# Altium integrated library TI Data Converters Analog to Digital Converter.IntLib: 2197 symbols (part 11 of 168)
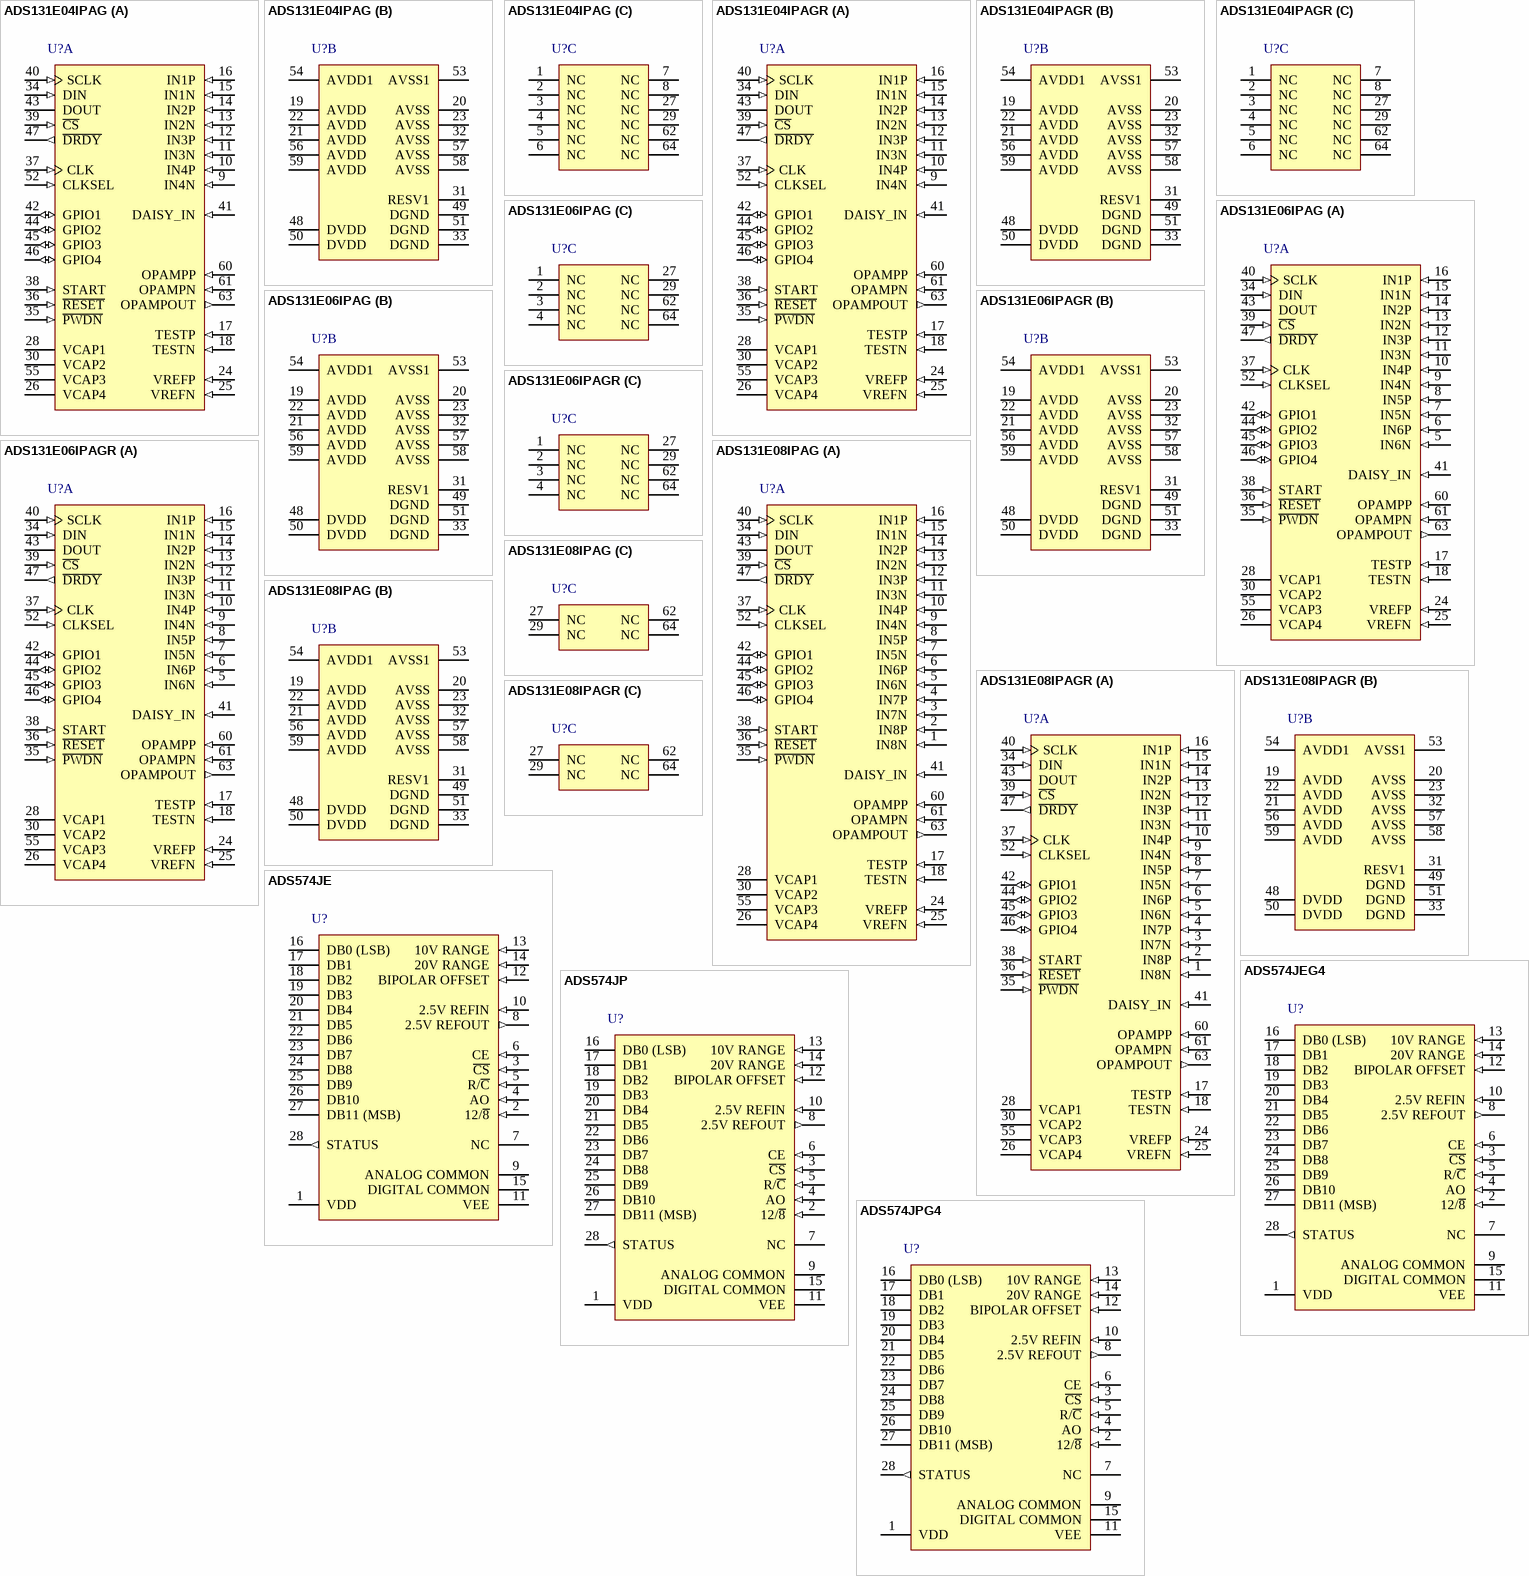
[diagram p136: symbols ADS131E04IPAG to ADS574JPG4]

## ADS131E08IPAGR
designator U?
Analog Front-End for Power Monitoring, Control and Protection, -40 to 105 degC, 64-pin QFP (PAG64), Green (RoHS & no Sb/Br); Manufacturer: Texas Instruments; PartNumber: ADS131E08IPAGR; # Input Channels: 8; Analog Voltage AV/DD(Max)(V): 5.25; Analog Voltage AV/DD(Min)(V): 2.7; Architecture: Delta-Sigma; Digital Supply(Max)(V): 3.6; Digital Supply(Min)(V): 1.8; Interface: Serial SPI; Resolution(Bits): 16; Sample Rate(max)(SPS): 64k; SNR(dB): 107; SubFamily: Precision ADC (<=10MSPS); DatasheetVersion: SBAS561A; PackageVersion: 4040282/C, 11/1996; PackageReference: PAG64; PackageDescription: 64-Pin Plastic Flat Pack, Body 10 x 10 mm, Pitch 0.50 mm; Supplier 1: Digi-Key; Supplier Part Number 1: 296-14468-2-ND; Supplier 2: Digi-Key; Supplier Part Number 2: 296-14468-1-ND; Supplier 3: Digi-Key; Supplier Part Number 3: 296-14468-6-ND; Supplier 4: Mouser; Supplier Part Number 4: 595-ADS1110A7IDBVT; Eco-Plan: Green (RoHS & no Sb/Br); Mounting Technology: Surface Mount; Code_JEDEC: MS-026; ComponentLink1Description: Manufacturer URL; ComponentLink1URL: http://www.ti.com/; ComponentLink2Description: Datasheet; ComponentLink2URL: http://www.ti.com/lit/ds/symlink/ads131e08.pdf; ComponentLink3Description: Package Specification; ComponentLink3URL: http://www.ti.com/lit/ml/mtqf006a/mtqf006a.pdf
footprint TI-PAG64_N (QFP, 64-Leads, Body 10x10mm, Pitch 0.5mm, IPC Medium Density)
footprint TI-PAG64_L (QFP, 64-Leads, Body 10x10mm, Pitch 0.5mm, IPC High Density)
footprint TI-PAG64_M (QFP, 64-Leads, Body 10x10mm, Pitch 0.5mm, IPC Low Density)
part A pins: 1 IN8N (in) "Differential analog negative input 8", 2 IN8P (in) "Differential analog positive input 8", 3 IN7N (in) "Differential analog negative input 7", 4 IN7P (in) "Differential analog positive input 7", 5 IN6N (in) "Differential analog negative input 6", 6 IN6P (in) "Differential analog positive input 6", 7 IN5N (in) "Differential analog negative input 5", 8 IN5P (in) "Differential analog positive input 5", 9 IN4N (in) "Differential analog negative input 4", 10 IN4P (in) "Differential analog positive input 4", 11 IN3N (in) "Differential analog negative input 3", 12 IN3P (in) "Differential analog positive input 3", 13 IN2N (in) "Differential analog negative input 2", 14 IN2P (in) "Differential analog positive input 2", 15 IN1N (in) "Differential analog negative input 1", 16 IN1P (in) "Differential analog positive input 1", 17 TESTP (in) "Internal test signal, positive signal", 18 TESTN (in) "Internal test signal, negative signal", 24 VREFP (in) "Positive reference voltage", 25 VREFN (in) "Negative reference voltage", 26 VCAP4 "Analog bypass capacitor", 28 VCAP1 "Analog bypass capacitor", 30 VCAP2 "Analog bypass capacitor", 34 DIN (in) "SPI data in", 35 ~{PWDN} (in) "Power-down; active low", 36 ~{RESET} (in) "System reset; active low", 37 CLK (in) "Master clock input", 38 START (in) "Start conversion", 39 ~{CS} (in) "SPI chip select; active low", 40 SCLK (in) "SPI clock", 41 DAISY_IN (in) "Daisy-chain input", 42 GPIO1 (io) "General-purpose input/output pin", 43 DOUT (hiz) "SPI data out", 44 GPIO2 (io) "General-purpose input/output pin", 45 GPIO3 (io) "General-purpose input/output pin", 46 GPIO4 (io) "General-purpose input/output pin", 47 ~{DRDY} (out) "Data ready; active low", 52 CLKSEL (in) "Master clock select", 55 VCAP3 "Analog bypass capacitor", 60 OPAMPP (in) "Op amp noninverting input", 61 OPAMPN (in) "Op amp inverting input", 63 OPAMPOUT (out) "Op amp output"
part B pins: 19 AVDD (power) "Analog supply", 20 AVSS (power) "Analog ground", 21 AVDD (power) "Analog supply", 22 AVDD (power) "Analog supply", 23 AVSS (power) "Analog ground", 31 RESV1 (power) "Reserved for future use; must tie to logic low (DGND)", 32 AVSS (power) "Analog ground", 33 DGND (power) "Digital ground", 48 DVDD (power) "Digital power supply", 49 DGND (power) "Digital ground", 50 DVDD (power) "Digital power supply", 51 DGND (power) "Digital ground", 53 AVSS1 (power) "Charge pump analog ground", 54 AVDD1 (power) "Charge pump analog supply", 56 AVDD (power) "Analog supply", 57 AVSS (power) "Analog ground", 58 AVSS (power) "Analog ground", 59 AVDD (power) "Analog supply"
part C pins: 27 NC "No connection, leave floating", 29 NC "No connection, leave floating", 62 NC "No connection, leave floating", 64 NC "No connection, leave floating"

## ADS574JE
designator U?
Microprocessor-Compatible Sampling CMOS ADC, -40 to 85 degC, 28-pin DIP (NT28), Green (RoHS & no Sb/Br); Manufacturer: Texas Instruments; PartNumber: ADS574JE; # Input Channels: 1; Analog Voltage AV/DD(Max)(V): 5.5; Analog Voltage AV/DD(Min)(V): 4.5; Architecture: SAR; Interface: Parallel CMOS; Resolution(Bits): 12; SFDR(dB): 78; SINAD(dB): 71; SNR(dB): 72; SubFamily: Precision ADC (<=10MSPS); DatasheetVersion: SBAS009; PackageVersion: 4040050/C, 04/2009; PackageReference: NT28; PackageDescription: 28-Pin Plastic Dual-In-Line Package, Body 35.69 x 6.73 mm, Pitch 2.54 mm; Supplier 1: Digi-Key; Supplier Part Number 1: ADS1110A7IDBVTG4-ND; Supplier 2: Mouser; Supplier Part Number 2: 595-ADS1110A7IDBVTG4; Digital Supply(Max)(V): 5.5; Digital Supply(Min)(V): 4.5; Eco-Plan: Green (RoHS & no Sb/Br); INL(Max)(+/-LSB): 1; Mounting Technology: Through Hole; ComponentLink1Description: Manufacturer URL; ComponentLink1URL: http://www.ti.com/; ComponentLink2Description: Datasheet; ComponentLink2URL: http://www.ti.com/general/docs/lit/getliterature.tsp?genericPartNumber=ADS574&fileType=pdf; ComponentLink3Description: Package Specification; ComponentLink3URL: http://www.ti.com/lit/ml/mpdi004a/mpdi004a.pdf
footprint TI-NT28 (DIP, 28-Leads, Body 35.69x6.73mm, Pitch 2.54mm)
pins: 1 VDD (power), 2 12/~{8} (in), 3 ~{CS} (in), 4 AO (in), 5 R/~{C} (in), 6 CE (in), 7 NC, 8 2.5V REFOUT (out), 9 ANALOG COMMON (power), 10 2.5V REFIN (in), 11 VEE (power), 12 BIPOLAR OFFSET (in), 13 10V RANGE (in), 14 20V RANGE (in), 15 DIGITAL COMMON (power), 16 DB0 (LSB) (hiz), 17 DB1 (hiz), 18 DB2 (hiz), 19 DB3 (hiz), 20 DB4 (hiz), 21 DB5 (hiz), 22 DB6 (hiz), 23 DB7 (hiz), 24 DB8 (hiz), 25 DB9 (hiz), 26 DB10 (hiz), 27 DB11 (MSB) (hiz), 28 STATUS (out)

## ADS574JEG4
designator U?
Microprocessor-Compatible Sampling CMOS ADC, -40 to 85 degC, 28-pin DIP (NT28), Green (RoHS & no Sb/Br); Manufacturer: Texas Instruments; PartNumber: ADS574JEG4; # Input Channels: 1; Analog Voltage AV/DD(Max)(V): 5.5; Analog Voltage AV/DD(Min)(V): 4.5; Architecture: SAR; Interface: Parallel CMOS; Resolution(Bits): 12; SFDR(dB): 78; SINAD(dB): 71; SNR(dB): 72; SubFamily: Precision ADC (<=10MSPS); DatasheetVersion: SBAS009; PackageVersion: 4040050/C, 04/2009; PackageReference: NT28; PackageDescription: 28-Pin Plastic Dual-In-Line Package, Body 35.69 x 6.73 mm, Pitch 2.54 mm; Supplier 1: Digi-Key; Supplier Part Number 1: ADS1100A0IDBVR-ND; Supplier 2: Newark; Supplier Part Number 2: 20H0707; Supplier 3: Mouser; Supplier Part Number 3: 595-ADS1100A0IDBVR; Digital Supply(Max)(V): 5.5; Digital Supply(Min)(V): 4.5; Eco-Plan: Green (RoHS & no Sb/Br); INL(Max)(+/-LSB): 1; Mounting Technology: Through Hole; ComponentLink1Description: Manufacturer URL; ComponentLink1URL: http://www.ti.com/; ComponentLink2Description: Datasheet; ComponentLink2URL: http://www.ti.com/general/docs/lit/getliterature.tsp?genericPartNumber=ADS574&fileType=pdf; ComponentLink3Description: Package Specification; ComponentLink3URL: http://www.ti.com/lit/ml/mpdi004a/mpdi004a.pdf
footprint TI-NT28 (DIP, 28-Leads, Body 35.69x6.73mm, Pitch 2.54mm)
pins: 1 VDD (power), 2 12/~{8} (in), 3 ~{CS} (in), 4 AO (in), 5 R/~{C} (in), 6 CE (in), 7 NC, 8 2.5V REFOUT (out), 9 ANALOG COMMON (power), 10 2.5V REFIN (in), 11 VEE (power), 12 BIPOLAR OFFSET (in), 13 10V RANGE (in), 14 20V RANGE (in), 15 DIGITAL COMMON (power), 16 DB0 (LSB) (hiz), 17 DB1 (hiz), 18 DB2 (hiz), 19 DB3 (hiz), 20 DB4 (hiz), 21 DB5 (hiz), 22 DB6 (hiz), 23 DB7 (hiz), 24 DB8 (hiz), 25 DB9 (hiz), 26 DB10 (hiz), 27 DB11 (MSB) (hiz), 28 STATUS (out)

## ADS574JP
designator U?
Microprocessor-Compatible Sampling CMOS ADC, -40 to 85 degC, 28-pin DIP (NTD28), Green (RoHS & no Sb/Br); Manufacturer: Texas Instruments; PartNumber: ADS574JP; # Input Channels: 1; Analog Voltage AV/DD(Max)(V): 5.5; Analog Voltage AV/DD(Min)(V): 4.5; Architecture: SAR; Interface: Parallel CMOS; Resolution(Bits): 12; SFDR(dB): 78; SINAD(dB): 71; SNR(dB): 72; SubFamily: Precision ADC (<=10MSPS); DatasheetVersion: SBAS009; PackageVersion: 4202496/A, 03/2001; PackageReference: NTD28; PackageDescription: 28-Pin Plastic Dual-In-Line, Body 37.4 x 13.525 mm, Pitch 2.54 mm; Supplier 1: Digi-Key; Supplier Part Number 1: ADS1100A0IDBVRG4-ND; Supplier 2: Mouser; Supplier Part Number 2: 595-ADS1100A0IDBVRG4; Digital Supply(Max)(V): 5.5; Digital Supply(Min)(V): 4.5; Eco-Plan: Green (RoHS & no Sb/Br); INL(Max)(+/-LSB): 1; Mounting Technology: Through Hole; Code_JEDEC: MS-011-AB; ComponentLink1Description: Manufacturer URL; ComponentLink1URL: http://www.ti.com/; ComponentLink2Description: Datasheet; ComponentLink2URL: http://www.ti.com/general/docs/lit/getliterature.tsp?genericPartNumber=ADS574&fileType=pdf; ComponentLink3Description: Package Specification; ComponentLink3URL: http://www.ti.com/litv/pdf/mpdi056
footprint TI-NTD28 (DIP, 28-Leads, Body 37.4x13.525mm, Pitch 2.54mm)
pins: 1 VDD (power), 2 12/~{8} (in), 3 ~{CS} (in), 4 AO (in), 5 R/~{C} (in), 6 CE (in), 7 NC, 8 2.5V REFOUT (out), 9 ANALOG COMMON (power), 10 2.5V REFIN (in), 11 VEE (power), 12 BIPOLAR OFFSET (in), 13 10V RANGE (in), 14 20V RANGE (in), 15 DIGITAL COMMON (power), 16 DB0 (LSB) (hiz), 17 DB1 (hiz), 18 DB2 (hiz), 19 DB3 (hiz), 20 DB4 (hiz), 21 DB5 (hiz), 22 DB6 (hiz), 23 DB7 (hiz), 24 DB8 (hiz), 25 DB9 (hiz), 26 DB10 (hiz), 27 DB11 (MSB) (hiz), 28 STATUS (out)

## ADS574JPG4
designator U?
Microprocessor-Compatible Sampling CMOS ADC, -40 to 85 degC, 28-pin DIP (NTD28), Green (RoHS & no Sb/Br); Manufacturer: Texas Instruments; PartNumber: ADS574JPG4; # Input Channels: 1; Analog Voltage AV/DD(Max)(V): 5.5; Analog Voltage AV/DD(Min)(V): 4.5; Architecture: SAR; Interface: Parallel CMOS; Resolution(Bits): 12; SFDR(dB): 78; SINAD(dB): 71; SNR(dB): 72; SubFamily: Precision ADC (<=10MSPS); DatasheetVersion: SBAS009; PackageVersion: 4202496/A, 03/2001; PackageReference: NTD28; PackageDescription: 28-Pin Plastic Dual-In-Line, Body 37.4 x 13.525 mm, Pitch 2.54 mm; Supplier 1: Digi-Key; Supplier Part Number 1: 296-12966-2-ND; Supplier 2: Digi-Key; Supplier Part Number 2: 296-12966-1-ND; Supplier 3: Digi-Key; Supplier Part Number 3: 296-12966-6-ND; Supplier 4: Farnell; Supplier Part Number 4: 1135959; Supplier 5: Newark; Supplier Part Number 5: 20H0708; Supplier 6: Mouser; Supplier Part Number 6: 595-ADS1100A0IDBVT; Digital Supply(Max)(V): 5.5; Digital Supply(Min)(V): 4.5; Eco-Plan: Green (RoHS & no Sb/Br); INL(Max)(+/-LSB): 1; Mounting Technology: Through Hole; Code_JEDEC: MS-011-AB; ComponentLink1Description: Manufacturer URL; ComponentLink1URL: http://www.ti.com/; ComponentLink2Description: Datasheet; ComponentLink2URL: http://www.ti.com/general/docs/lit/getliterature.tsp?genericPartNumber=ADS574&fileType=pdf; ComponentLink3Description: Package Specification; ComponentLink3URL: http://www.ti.com/litv/pdf/mpdi056
footprint TI-NTD28 (DIP, 28-Leads, Body 37.4x13.525mm, Pitch 2.54mm)
pins: 1 VDD (power), 2 12/~{8} (in), 3 ~{CS} (in), 4 AO (in), 5 R/~{C} (in), 6 CE (in), 7 NC, 8 2.5V REFOUT (out), 9 ANALOG COMMON (power), 10 2.5V REFIN (in), 11 VEE (power), 12 BIPOLAR OFFSET (in), 13 10V RANGE (in), 14 20V RANGE (in), 15 DIGITAL COMMON (power), 16 DB0 (LSB) (hiz), 17 DB1 (hiz), 18 DB2 (hiz), 19 DB3 (hiz), 20 DB4 (hiz), 21 DB5 (hiz), 22 DB6 (hiz), 23 DB7 (hiz), 24 DB8 (hiz), 25 DB9 (hiz), 26 DB10 (hiz), 27 DB11 (MSB) (hiz), 28 STATUS (out)

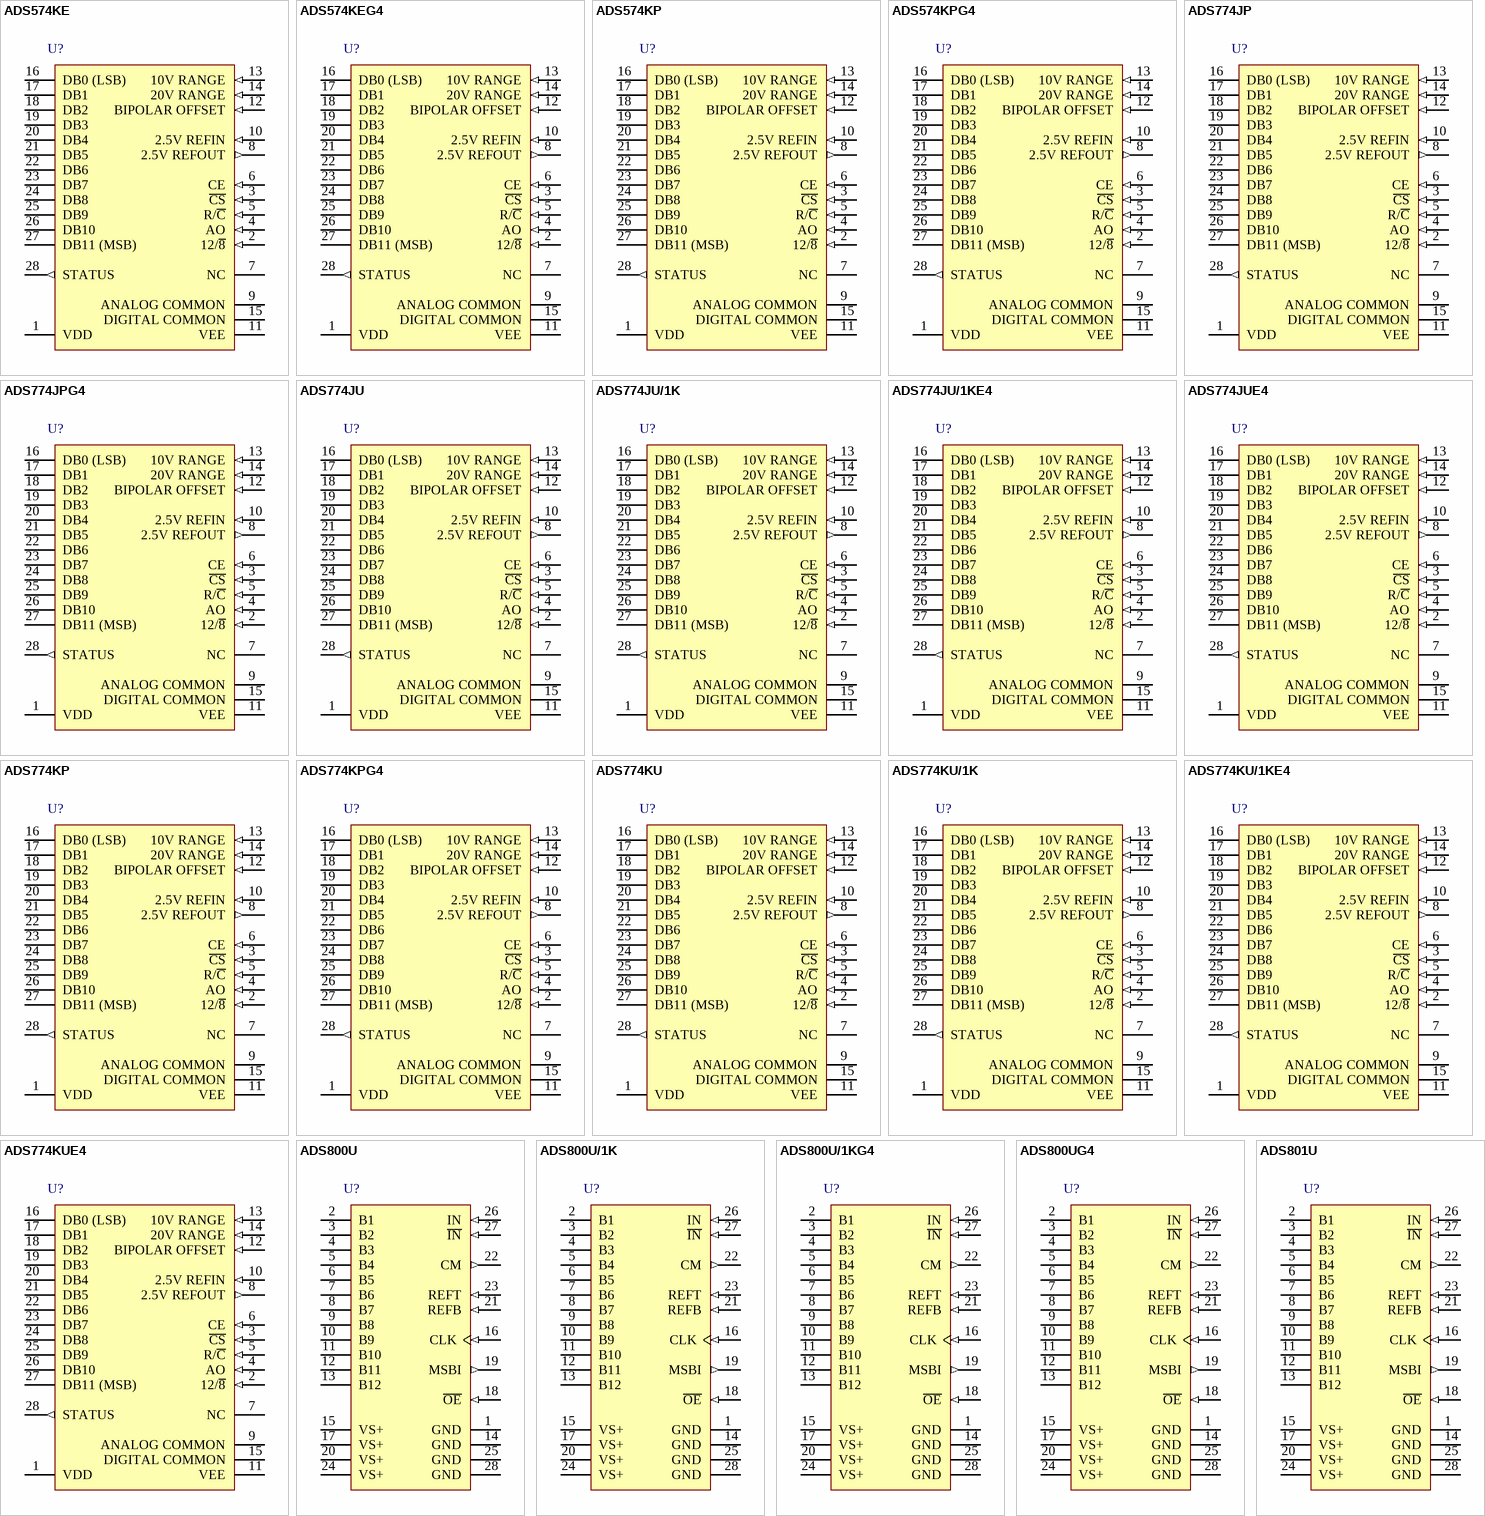
[diagram p7: symbols ADS574KE to ADS801U]

## ADS574KE
designator U?
Microprocessor-Compatible Sampling CMOS ADC, -40 to 85 degC, 28-pin DIP (NT28), Green (RoHS & no Sb/Br); Manufacturer: Texas Instruments; PartNumber: ADS574KE; # Input Channels: 1; Analog Voltage AV/DD(Max)(V): 5.5; Analog Voltage AV/DD(Min)(V): 4.5; Architecture: SAR; INL(Max)(+/-LSB): 0.5; Interface: Parallel CMOS; Resolution(Bits): 12; SFDR(dB): 78; SINAD(dB): 71; SNR(dB): 72; SubFamily: Precision ADC (<=10MSPS); DatasheetVersion: SBAS009; PackageVersion: 4040050/C, 04/2009; PackageReference: NT28; PackageDescription: 28-Pin Plastic Dual-In-Line Package, Body 35.69 x 6.73 mm, Pitch 2.54 mm; Supplier 1: Digi-Key; Supplier Part Number 1: ADS1100A0IDBVTG4-ND; Supplier 2: Newark; Supplier Part Number 2: 33K4745; Supplier 3: Mouser; Supplier Part Number 3: 595-ADS1100A0IDBVTG4; Digital Supply(Max)(V): 5.5; Digital Supply(Min)(V): 4.5; Eco-Plan: Green (RoHS & no Sb/Br); Mounting Technology: Through Hole; ComponentLink1Description: Manufacturer URL; ComponentLink1URL: http://www.ti.com/; ComponentLink2Description: Datasheet; ComponentLink2URL: http://www.ti.com/general/docs/lit/getliterature.tsp?genericPartNumber=ADS574&fileType=pdf; ComponentLink3Description: Package Specification; ComponentLink3URL: http://www.ti.com/lit/ml/mpdi004a/mpdi004a.pdf
footprint TI-NT28 (DIP, 28-Leads, Body 35.69x6.73mm, Pitch 2.54mm)
pins: 1 VDD (power), 2 12/~{8} (in), 3 ~{CS} (in), 4 AO (in), 5 R/~{C} (in), 6 CE (in), 7 NC, 8 2.5V REFOUT (out), 9 ANALOG COMMON (power), 10 2.5V REFIN (in), 11 VEE (power), 12 BIPOLAR OFFSET (in), 13 10V RANGE (in), 14 20V RANGE (in), 15 DIGITAL COMMON (power), 16 DB0 (LSB) (hiz), 17 DB1 (hiz), 18 DB2 (hiz), 19 DB3 (hiz), 20 DB4 (hiz), 21 DB5 (hiz), 22 DB6 (hiz), 23 DB7 (hiz), 24 DB8 (hiz), 25 DB9 (hiz), 26 DB10 (hiz), 27 DB11 (MSB) (hiz), 28 STATUS (out)

## ADS574KEG4
designator U?
Microprocessor-Compatible Sampling CMOS ADC, -40 to 85 degC, 28-pin DIP (NT28), Green (RoHS & no Sb/Br); Manufacturer: Texas Instruments; PartNumber: ADS574KEG4; # Input Channels: 1; Analog Voltage AV/DD(Max)(V): 5.5; Analog Voltage AV/DD(Min)(V): 4.5; Architecture: SAR; INL(Max)(+/-LSB): 0.5; Interface: Parallel CMOS; Resolution(Bits): 12; SFDR(dB): 78; SINAD(dB): 71; SNR(dB): 72; SubFamily: Precision ADC (<=10MSPS); DatasheetVersion: SBAS009; PackageVersion: 4040050/C, 04/2009; PackageReference: NT28; PackageDescription: 28-Pin Plastic Dual-In-Line Package, Body 35.69 x 6.73 mm, Pitch 2.54 mm; Supplier 1: Digi-Key; Supplier Part Number 1: ADS1100A1IDBVR-ND; Supplier 2: Mouser; Supplier Part Number 2: 595-ADS1100A1IDBVR; Digital Supply(Max)(V): 5.5; Digital Supply(Min)(V): 4.5; Eco-Plan: Green (RoHS & no Sb/Br); Mounting Technology: Through Hole; ComponentLink1Description: Manufacturer URL; ComponentLink1URL: http://www.ti.com/; ComponentLink2Description: Datasheet; ComponentLink2URL: http://www.ti.com/general/docs/lit/getliterature.tsp?genericPartNumber=ADS574&fileType=pdf; ComponentLink3Description: Package Specification; ComponentLink3URL: http://www.ti.com/lit/ml/mpdi004a/mpdi004a.pdf
footprint TI-NT28 (DIP, 28-Leads, Body 35.69x6.73mm, Pitch 2.54mm)
pins: 1 VDD (power), 2 12/~{8} (in), 3 ~{CS} (in), 4 AO (in), 5 R/~{C} (in), 6 CE (in), 7 NC, 8 2.5V REFOUT (out), 9 ANALOG COMMON (power), 10 2.5V REFIN (in), 11 VEE (power), 12 BIPOLAR OFFSET (in), 13 10V RANGE (in), 14 20V RANGE (in), 15 DIGITAL COMMON (power), 16 DB0 (LSB) (hiz), 17 DB1 (hiz), 18 DB2 (hiz), 19 DB3 (hiz), 20 DB4 (hiz), 21 DB5 (hiz), 22 DB6 (hiz), 23 DB7 (hiz), 24 DB8 (hiz), 25 DB9 (hiz), 26 DB10 (hiz), 27 DB11 (MSB) (hiz), 28 STATUS (out)

## ADS574KP
designator U?
Microprocessor-Compatible Sampling CMOS ADC, -40 to 85 degC, 28-pin DIP (NTD28), Green (RoHS & no Sb/Br); Manufacturer: Texas Instruments; PartNumber: ADS574KP; # Input Channels: 1; Analog Voltage AV/DD(Max)(V): 5.5; Analog Voltage AV/DD(Min)(V): 4.5; Architecture: SAR; INL(Max)(+/-LSB): 0.5; Interface: Parallel CMOS; Resolution(Bits): 12; SFDR(dB): 78; SINAD(dB): 71; SNR(dB): 72; SubFamily: Precision ADC (<=10MSPS); DatasheetVersion: SBAS009; PackageVersion: 4202496/A, 03/2001; PackageReference: NTD28; PackageDescription: 28-Pin Plastic Dual-In-Line, Body 37.4 x 13.525 mm, Pitch 2.54 mm; Supplier 1: Digi-Key; Supplier Part Number 1: ADS1100A1IDBVRG4-ND; Supplier 2: Mouser; Supplier Part Number 2: 595-ADS1100A1IDBVRG4; Digital Supply(Max)(V): 5.5; Digital Supply(Min)(V): 4.5; Eco-Plan: Green (RoHS & no Sb/Br); Mounting Technology: Through Hole; Code_JEDEC: MS-011-AB; ComponentLink1Description: Manufacturer URL; ComponentLink1URL: http://www.ti.com/; ComponentLink2Description: Datasheet; ComponentLink2URL: http://www.ti.com/general/docs/lit/getliterature.tsp?genericPartNumber=ADS574&fileType=pdf; ComponentLink3Description: Package Specification; ComponentLink3URL: http://www.ti.com/litv/pdf/mpdi056
footprint TI-NTD28 (DIP, 28-Leads, Body 37.4x13.525mm, Pitch 2.54mm)
pins: 1 VDD (power), 2 12/~{8} (in), 3 ~{CS} (in), 4 AO (in), 5 R/~{C} (in), 6 CE (in), 7 NC, 8 2.5V REFOUT (out), 9 ANALOG COMMON (power), 10 2.5V REFIN (in), 11 VEE (power), 12 BIPOLAR OFFSET (in), 13 10V RANGE (in), 14 20V RANGE (in), 15 DIGITAL COMMON (power), 16 DB0 (LSB) (hiz), 17 DB1 (hiz), 18 DB2 (hiz), 19 DB3 (hiz), 20 DB4 (hiz), 21 DB5 (hiz), 22 DB6 (hiz), 23 DB7 (hiz), 24 DB8 (hiz), 25 DB9 (hiz), 26 DB10 (hiz), 27 DB11 (MSB) (hiz), 28 STATUS (out)

## ADS574KPG4
designator U?
Microprocessor-Compatible Sampling CMOS ADC, -40 to 85 degC, 28-pin DIP (NTD28), Green (RoHS & no Sb/Br); Manufacturer: Texas Instruments; PartNumber: ADS574KPG4; # Input Channels: 1; Analog Voltage AV/DD(Max)(V): 5.5; Analog Voltage AV/DD(Min)(V): 4.5; Architecture: SAR; INL(Max)(+/-LSB): 0.5; Interface: Parallel CMOS; Resolution(Bits): 12; SFDR(dB): 78; SINAD(dB): 71; SNR(dB): 72; SubFamily: Precision ADC (<=10MSPS); DatasheetVersion: SBAS009; PackageVersion: 4202496/A, 03/2001; PackageReference: NTD28; PackageDescription: 28-Pin Plastic Dual-In-Line, Body 37.4 x 13.525 mm, Pitch 2.54 mm; Supplier 1: Digi-Key; Supplier Part Number 1: 296-14298-2-ND; Supplier 2: Digi-Key; Supplier Part Number 2: 296-14298-1-ND; Supplier 3: Digi-Key; Supplier Part Number 3: 296-14298-6-ND; Supplier 4: Newark; Supplier Part Number 4: 20H0710; Supplier 5: Mouser; Supplier Part Number 5: 595-ADS1100A1IDBVT; Digital Supply(Max)(V): 5.5; Digital Supply(Min)(V): 4.5; Eco-Plan: Green (RoHS & no Sb/Br); Mounting Technology: Through Hole; Code_JEDEC: MS-011-AB; ComponentLink1Description: Manufacturer URL; ComponentLink1URL: http://www.ti.com/; ComponentLink2Description: Datasheet; ComponentLink2URL: http://www.ti.com/general/docs/lit/getliterature.tsp?genericPartNumber=ADS574&fileType=pdf; ComponentLink3Description: Package Specification; ComponentLink3URL: http://www.ti.com/litv/pdf/mpdi056
footprint TI-NTD28 (DIP, 28-Leads, Body 37.4x13.525mm, Pitch 2.54mm)
pins: 1 VDD (power), 2 12/~{8} (in), 3 ~{CS} (in), 4 AO (in), 5 R/~{C} (in), 6 CE (in), 7 NC, 8 2.5V REFOUT (out), 9 ANALOG COMMON (power), 10 2.5V REFIN (in), 11 VEE (power), 12 BIPOLAR OFFSET (in), 13 10V RANGE (in), 14 20V RANGE (in), 15 DIGITAL COMMON (power), 16 DB0 (LSB) (hiz), 17 DB1 (hiz), 18 DB2 (hiz), 19 DB3 (hiz), 20 DB4 (hiz), 21 DB5 (hiz), 22 DB6 (hiz), 23 DB7 (hiz), 24 DB8 (hiz), 25 DB9 (hiz), 26 DB10 (hiz), 27 DB11 (MSB) (hiz), 28 STATUS (out)

## ADS774JP
designator U?
Microprocessor-Compatible Sampling CMOS ADC, -40 to 85 degC, 28-pin DIP (NTD28), Green (RoHS & no Sb/Br); Manufacturer: Texas Instruments; PartNumber: ADS774JP; # Input Channels: 1; Analog Voltage AV/DD(Max)(V): 5.5; Analog Voltage AV/DD(Min)(V): 4.5; Architecture: SAR; Digital Supply(Max)(V): 5.4; Interface: Parallel CMOS; Resolution(Bits): 12; Sample Rate (max)(SPS): 125k; SFDR(dB): 78; SINAD(dB): 71; SNR(dB): 72; SubFamily: Precision ADC (<=10MSPS); DatasheetVersion: SBAS010; PackageVersion: 4202496/A, 03/2001; PackageReference: NTD28; PackageDescription: 28-Pin Plastic Dual-In-Line, Body 37.4 x 13.525 mm, Pitch 2.54 mm; Supplier 1: Digi-Key; Supplier Part Number 1: ADS1100A1IDBVTG4-ND; Supplier 2: Mouser; Supplier Part Number 2: 595-ADS1100A1IDBVTG4; Digital Supply(Min)(V): 4.5; Eco-Plan: Green (RoHS & no Sb/Br); INL(Max)(+/-LSB): 1; Mounting Technology: Through Hole; Code_JEDEC: MS-011-AB; ComponentLink1Description: Manufacturer URL; ComponentLink1URL: http://www.ti.com/; ComponentLink2Description: Datasheet; ComponentLink2URL: http://www.ti.com/general/docs/lit/getliterature.tsp?genericPartNumber=ADS774&fileType=pdf; ComponentLink3Description: Package Specification; ComponentLink3URL: http://www.ti.com/litv/pdf/mpdi056
footprint TI-NTD28 (DIP, 28-Leads, Body 37.4x13.525mm, Pitch 2.54mm)
pins: 1 VDD (power), 2 12/~{8} (in), 3 ~{CS} (in), 4 AO (in), 5 R/~{C} (in), 6 CE (in), 7 NC, 8 2.5V REFOUT (out), 9 ANALOG COMMON (power), 10 2.5V REFIN (in), 11 VEE (power), 12 BIPOLAR OFFSET (in), 13 10V RANGE (in), 14 20V RANGE (in), 15 DIGITAL COMMON (power), 16 DB0 (LSB) (hiz), 17 DB1 (hiz), 18 DB2 (hiz), 19 DB3 (hiz), 20 DB4 (hiz), 21 DB5 (hiz), 22 DB6 (hiz), 23 DB7 (hiz), 24 DB8 (hiz), 25 DB9 (hiz), 26 DB10 (hiz), 27 DB11 (MSB) (hiz), 28 STATUS (out)

## ADS774JPG4
designator U?
Microprocessor-Compatible Sampling CMOS ADC, -40 to 85 degC, 28-pin DIP (NTD28), Green (RoHS & no Sb/Br); Manufacturer: Texas Instruments; PartNumber: ADS774JPG4; # Input Channels: 1; Analog Voltage AV/DD(Max)(V): 5.5; Analog Voltage AV/DD(Min)(V): 4.5; Architecture: SAR; Digital Supply(Max)(V): 5.4; Interface: Parallel CMOS; Resolution(Bits): 12; Sample Rate (max)(SPS): 125k; SFDR(dB): 78; SINAD(dB): 71; SNR(dB): 72; SubFamily: Precision ADC (<=10MSPS); DatasheetVersion: SBAS010; PackageVersion: 4202496/A, 03/2001; PackageReference: NTD28; PackageDescription: 28-Pin Plastic Dual-In-Line, Body 37.4 x 13.525 mm, Pitch 2.54 mm; Supplier 1: Digi-Key; Supplier Part Number 1: ADS1100A2IDBVR-ND; Supplier 2: Mouser; Supplier Part Number 2: 595-ADS1100A2IDBVR; Digital Supply(Min)(V): 4.5; Eco-Plan: Green (RoHS & no Sb/Br); INL(Max)(+/-LSB): 1; Mounting Technology: Through Hole; Code_JEDEC: MS-011-AB; ComponentLink1Description: Manufacturer URL; ComponentLink1URL: http://www.ti.com/; ComponentLink2Description: Datasheet; ComponentLink2URL: http://www.ti.com/general/docs/lit/getliterature.tsp?genericPartNumber=ADS774&fileType=pdf; ComponentLink3Description: Package Specification; ComponentLink3URL: http://www.ti.com/litv/pdf/mpdi056
footprint TI-NTD28 (DIP, 28-Leads, Body 37.4x13.525mm, Pitch 2.54mm)
pins: 1 VDD (power), 2 12/~{8} (in), 3 ~{CS} (in), 4 AO (in), 5 R/~{C} (in), 6 CE (in), 7 NC, 8 2.5V REFOUT (out), 9 ANALOG COMMON (power), 10 2.5V REFIN (in), 11 VEE (power), 12 BIPOLAR OFFSET (in), 13 10V RANGE (in), 14 20V RANGE (in), 15 DIGITAL COMMON (power), 16 DB0 (LSB) (hiz), 17 DB1 (hiz), 18 DB2 (hiz), 19 DB3 (hiz), 20 DB4 (hiz), 21 DB5 (hiz), 22 DB6 (hiz), 23 DB7 (hiz), 24 DB8 (hiz), 25 DB9 (hiz), 26 DB10 (hiz), 27 DB11 (MSB) (hiz), 28 STATUS (out)

## ADS774JU
designator U?
Microprocessor-Compatible Sampling CMOS ADC, -40 to 85 degC, 28-pin SOIC (DW28), Green (RoHS & no Sb/Br); Manufacturer: Texas Instruments; PartNumber: ADS774JU; # Input Channels: 1; Analog Voltage AV/DD(Max)(V): 5.5; Analog Voltage AV/DD(Min)(V): 4.5; Architecture: SAR; Digital Supply(Max)(V): 5.4; Interface: Parallel CMOS; Resolution(Bits): 12; Sample Rate (max)(SPS): 125k; SFDR(dB): 78; SINAD(dB): 71; SNR(dB): 72; SubFamily: Precision ADC (<=10MSPS); DatasheetVersion: SBAS010; PackageVersion: 4040000-6/G, 01/2011; PackageReference: DW28; PackageDescription: 28-Pin Plastic Small Outline, Body 17.90 x 7.50 mm, Pitch 1.27 mm; Supplier 1: Digi-Key; Supplier Part Number 1: ADS1100A2IDBVRG4-ND; Supplier 2: Mouser; Supplier Part Number 2: 595-ADS1100A2IDBVRG4; Digital Supply(Min)(V): 4.5; Eco-Plan: Green (RoHS & no Sb/Br); INL(Max)(+/-LSB): 1; Mounting Technology: Surface Mount; Code_JEDEC: MS-013; ComponentLink1Description: Manufacturer URL; ComponentLink1URL: http://www.ti.com/; ComponentLink2Description: Datasheet; ComponentLink2URL: http://www.ti.com/general/docs/lit/getliterature.tsp?genericPartNumber=ADS774&fileType=pdf; ComponentLink3Description: Package Specification; ComponentLink3URL: http://www.ti.com/lit/ml/mpds175a/mpds175a.pdf
footprint TI-DW28_N (SOIC, 28-Leads, Body 17.9x7.5mm, Pitch 1.27mm, IPC Medium Density)
footprint TI-DW28_L (SOIC, 28-Leads, Body 17.9x7.5mm, Pitch 1.27mm, IPC High Density)
footprint TI-DW28_M (SOIC, 28-Leads, Body 17.9x7.5mm, Pitch 1.27mm, IPC Low Density)
pins: 1 VDD (power), 2 12/~{8} (in), 3 ~{CS} (in), 4 AO (in), 5 R/~{C} (in), 6 CE (in), 7 NC, 8 2.5V REFOUT (out), 9 ANALOG COMMON (power), 10 2.5V REFIN (in), 11 VEE (power), 12 BIPOLAR OFFSET (in), 13 10V RANGE (in), 14 20V RANGE (in), 15 DIGITAL COMMON (power), 16 DB0 (LSB) (hiz), 17 DB1 (hiz), 18 DB2 (hiz), 19 DB3 (hiz), 20 DB4 (hiz), 21 DB5 (hiz), 22 DB6 (hiz), 23 DB7 (hiz), 24 DB8 (hiz), 25 DB9 (hiz), 26 DB10 (hiz), 27 DB11 (MSB) (hiz), 28 STATUS (out)

## ADS774JU/1K
designator U?
Microprocessor-Compatible Sampling CMOS ADC, -40 to 85 degC, 28-pin SOIC (DW28), Green (RoHS & no Sb/Br); Manufacturer: Texas Instruments; PartNumber: ADS774JU/1K; # Input Channels: 1; Analog Voltage AV/DD(Max)(V): 5.5; Analog Voltage AV/DD(Min)(V): 4.5; Architecture: SAR; Digital Supply(Max)(V): 5.4; Interface: Parallel CMOS; Resolution(Bits): 12; Sample Rate (max)(SPS): 125k; SFDR(dB): 78; SINAD(dB): 71; SNR(dB): 72; SubFamily: Precision ADC (<=10MSPS); DatasheetVersion: SBAS010; PackageVersion: 4040000-6/G, 01/2011; PackageReference: DW28; PackageDescription: 28-Pin Plastic Small Outline, Body 17.90 x 7.50 mm, Pitch 1.27 mm; Supplier 1: Digi-Key; Supplier Part Number 1: 296-14299-2-ND; Supplier 2: Digi-Key; Supplier Part Number 2: 296-14299-1-ND; Supplier 3: Digi-Key; Supplier Part Number 3: 296-14299-6-ND; Supplier 4: Newark; Supplier Part Number 4: 20H0712; Supplier 5: Mouser; Supplier Part Number 5: 595-ADS1100A2IDBVT; Digital Supply(Min)(V): 4.5; Eco-Plan: Green (RoHS & no Sb/Br); INL(Max)(+/-LSB): 1; Mounting Technology: Surface Mount; Code_JEDEC: MS-013; ComponentLink1Description: Manufacturer URL; ComponentLink1URL: http://www.ti.com/; ComponentLink2Description: Datasheet; ComponentLink2URL: http://www.ti.com/general/docs/lit/getliterature.tsp?genericPartNumber=ADS774&fileType=pdf; ComponentLink3Description: Package Specification; ComponentLink3URL: http://www.ti.com/lit/ml/mpds175a/mpds175a.pdf
footprint TI-DW28_N (SOIC, 28-Leads, Body 17.9x7.5mm, Pitch 1.27mm, IPC Medium Density)
footprint TI-DW28_L (SOIC, 28-Leads, Body 17.9x7.5mm, Pitch 1.27mm, IPC High Density)
footprint TI-DW28_M (SOIC, 28-Leads, Body 17.9x7.5mm, Pitch 1.27mm, IPC Low Density)
pins: 1 VDD (power), 2 12/~{8} (in), 3 ~{CS} (in), 4 AO (in), 5 R/~{C} (in), 6 CE (in), 7 NC, 8 2.5V REFOUT (out), 9 ANALOG COMMON (power), 10 2.5V REFIN (in), 11 VEE (power), 12 BIPOLAR OFFSET (in), 13 10V RANGE (in), 14 20V RANGE (in), 15 DIGITAL COMMON (power), 16 DB0 (LSB) (hiz), 17 DB1 (hiz), 18 DB2 (hiz), 19 DB3 (hiz), 20 DB4 (hiz), 21 DB5 (hiz), 22 DB6 (hiz), 23 DB7 (hiz), 24 DB8 (hiz), 25 DB9 (hiz), 26 DB10 (hiz), 27 DB11 (MSB) (hiz), 28 STATUS (out)

## ADS774JU/1KE4
designator U?
Microprocessor-Compatible Sampling CMOS ADC, -40 to 85 degC, 28-pin SOIC (DW28), Green (RoHS & no Sb/Br); Manufacturer: Texas Instruments; PartNumber: ADS774JU/1KE4; # Input Channels: 1; Analog Voltage AV/DD(Max)(V): 5.5; Analog Voltage AV/DD(Min)(V): 4.5; Architecture: SAR; Digital Supply(Max)(V): 5.4; Interface: Parallel CMOS; Resolution(Bits): 12; Sample Rate (max)(SPS): 125k; SFDR(dB): 78; SINAD(dB): 71; SNR(dB): 72; SubFamily: Precision ADC (<=10MSPS); DatasheetVersion: SBAS010; PackageVersion: 4040000-6/G, 01/2011; PackageReference: DW28; PackageDescription: 28-Pin Plastic Small Outline, Body 17.90 x 7.50 mm, Pitch 1.27 mm; Supplier 1: Digi-Key; Supplier Part Number 1: ADS1100A2IDBVTG4-ND; Supplier 2: Mouser; Supplier Part Number 2: 595-ADS1100A2IDBVTG4; Digital Supply(Min)(V): 4.5; Eco-Plan: Green (RoHS & no Sb/Br); INL(Max)(+/-LSB): 1; Mounting Technology: Surface Mount; Code_JEDEC: MS-013; ComponentLink1Description: Manufacturer URL; ComponentLink1URL: http://www.ti.com/; ComponentLink2Description: Datasheet; ComponentLink2URL: http://www.ti.com/general/docs/lit/getliterature.tsp?genericPartNumber=ADS774&fileType=pdf; ComponentLink3Description: Package Specification; ComponentLink3URL: http://www.ti.com/lit/ml/mpds175a/mpds175a.pdf
footprint TI-DW28_N (SOIC, 28-Leads, Body 17.9x7.5mm, Pitch 1.27mm, IPC Medium Density)
footprint TI-DW28_L (SOIC, 28-Leads, Body 17.9x7.5mm, Pitch 1.27mm, IPC High Density)
footprint TI-DW28_M (SOIC, 28-Leads, Body 17.9x7.5mm, Pitch 1.27mm, IPC Low Density)
pins: 1 VDD (power), 2 12/~{8} (in), 3 ~{CS} (in), 4 AO (in), 5 R/~{C} (in), 6 CE (in), 7 NC, 8 2.5V REFOUT (out), 9 ANALOG COMMON (power), 10 2.5V REFIN (in), 11 VEE (power), 12 BIPOLAR OFFSET (in), 13 10V RANGE (in), 14 20V RANGE (in), 15 DIGITAL COMMON (power), 16 DB0 (LSB) (hiz), 17 DB1 (hiz), 18 DB2 (hiz), 19 DB3 (hiz), 20 DB4 (hiz), 21 DB5 (hiz), 22 DB6 (hiz), 23 DB7 (hiz), 24 DB8 (hiz), 25 DB9 (hiz), 26 DB10 (hiz), 27 DB11 (MSB) (hiz), 28 STATUS (out)

## ADS774JUE4
designator U?
Microprocessor-Compatible Sampling CMOS ADC, -40 to 85 degC, 28-pin SOIC (DW28), Green (RoHS & no Sb/Br); Manufacturer: Texas Instruments; PartNumber: ADS774JUE4; # Input Channels: 1; Analog Voltage AV/DD(Max)(V): 5.5; Analog Voltage AV/DD(Min)(V): 4.5; Architecture: SAR; Digital Supply(Max)(V): 5.4; Interface: Parallel CMOS; Resolution(Bits): 12; Sample Rate (max)(SPS): 125k; SFDR(dB): 78; SINAD(dB): 71; SNR(dB): 72; SubFamily: Precision ADC (<=10MSPS); DatasheetVersion: SBAS010; PackageVersion: 4040000-6/G, 01/2011; PackageReference: DW28; PackageDescription: 28-Pin Plastic Small Outline, Body 17.90 x 7.50 mm, Pitch 1.27 mm; Supplier 1: Digi-Key; Supplier Part Number 1: ADS1100A3IDBVR-ND; Supplier 2: Newark; Supplier Part Number 2: 20H0713; Supplier 3: Mouser; Supplier Part Number 3: 595-ADS1100A3IDBVR; Digital Supply(Min)(V): 4.5; Eco-Plan: Green (RoHS & no Sb/Br); INL(Max)(+/-LSB): 1; Mounting Technology: Surface Mount; Code_JEDEC: MS-013; ComponentLink1Description: Manufacturer URL; ComponentLink1URL: http://www.ti.com/; ComponentLink2Description: Datasheet; ComponentLink2URL: http://www.ti.com/general/docs/lit/getliterature.tsp?genericPartNumber=ADS774&fileType=pdf; ComponentLink3Description: Package Specification; ComponentLink3URL: http://www.ti.com/lit/ml/mpds175a/mpds175a.pdf
footprint TI-DW28_N (SOIC, 28-Leads, Body 17.9x7.5mm, Pitch 1.27mm, IPC Medium Density)
footprint TI-DW28_L (SOIC, 28-Leads, Body 17.9x7.5mm, Pitch 1.27mm, IPC High Density)
footprint TI-DW28_M (SOIC, 28-Leads, Body 17.9x7.5mm, Pitch 1.27mm, IPC Low Density)
pins: 1 VDD (power), 2 12/~{8} (in), 3 ~{CS} (in), 4 AO (in), 5 R/~{C} (in), 6 CE (in), 7 NC, 8 2.5V REFOUT (out), 9 ANALOG COMMON (power), 10 2.5V REFIN (in), 11 VEE (power), 12 BIPOLAR OFFSET (in), 13 10V RANGE (in), 14 20V RANGE (in), 15 DIGITAL COMMON (power), 16 DB0 (LSB) (hiz), 17 DB1 (hiz), 18 DB2 (hiz), 19 DB3 (hiz), 20 DB4 (hiz), 21 DB5 (hiz), 22 DB6 (hiz), 23 DB7 (hiz), 24 DB8 (hiz), 25 DB9 (hiz), 26 DB10 (hiz), 27 DB11 (MSB) (hiz), 28 STATUS (out)

## ADS774KP
designator U?
Microprocessor-Compatible Sampling CMOS ADC, -40 to 85 degC, 28-pin DIP (NTD28), Green (RoHS & no Sb/Br); Manufacturer: Texas Instruments; PartNumber: ADS774KP; # Input Channels: 1; Analog Voltage AV/DD(Max)(V): 5.5; Analog Voltage AV/DD(Min)(V): 4.5; Architecture: SAR; Digital Supply(Max)(V): 5.4; INL(Max)(+/-LSB): 0.5; Interface: Parallel CMOS; Resolution(Bits): 12; Sample Rate (max)(SPS): 125k; SFDR(dB): 78; SINAD(dB): 71; SNR(dB): 72; SubFamily: Precision ADC (<=10MSPS); DatasheetVersion: SBAS010; PackageVersion: 4202496/A, 03/2001; PackageReference: NTD28; PackageDescription: 28-Pin Plastic Dual-In-Line, Body 37.4 x 13.525 mm, Pitch 2.54 mm; Supplier 1: Digi-Key; Supplier Part Number 1: ADS1100A3IDBVRG4-ND; Supplier 2: Mouser; Supplier Part Number 2: 595-ADS1100A3IDBVRG4; Digital Supply(Min)(V): 4.5; Eco-Plan: Green (RoHS & no Sb/Br); Mounting Technology: Through Hole; Code_JEDEC: MS-011-AB; ComponentLink1Description: Manufacturer URL; ComponentLink1URL: http://www.ti.com/; ComponentLink2Description: Datasheet; ComponentLink2URL: http://www.ti.com/general/docs/lit/getliterature.tsp?genericPartNumber=ADS774&fileType=pdf; ComponentLink3Description: Package Specification; ComponentLink3URL: http://www.ti.com/litv/pdf/mpdi056
footprint TI-NTD28 (DIP, 28-Leads, Body 37.4x13.525mm, Pitch 2.54mm)
pins: 1 VDD (power), 2 12/~{8} (in), 3 ~{CS} (in), 4 AO (in), 5 R/~{C} (in), 6 CE (in), 7 NC, 8 2.5V REFOUT (out), 9 ANALOG COMMON (power), 10 2.5V REFIN (in), 11 VEE (power), 12 BIPOLAR OFFSET (in), 13 10V RANGE (in), 14 20V RANGE (in), 15 DIGITAL COMMON (power), 16 DB0 (LSB) (hiz), 17 DB1 (hiz), 18 DB2 (hiz), 19 DB3 (hiz), 20 DB4 (hiz), 21 DB5 (hiz), 22 DB6 (hiz), 23 DB7 (hiz), 24 DB8 (hiz), 25 DB9 (hiz), 26 DB10 (hiz), 27 DB11 (MSB) (hiz), 28 STATUS (out)

## ADS774KPG4
designator U?
Microprocessor-Compatible Sampling CMOS ADC, -40 to 85 degC, 28-pin DIP (NTD28), Green (RoHS & no Sb/Br); Manufacturer: Texas Instruments; PartNumber: ADS774KPG4; # Input Channels: 1; Analog Voltage AV/DD(Max)(V): 5.5; Analog Voltage AV/DD(Min)(V): 4.5; Architecture: SAR; Digital Supply(Max)(V): 5.4; INL(Max)(+/-LSB): 0.5; Interface: Parallel CMOS; Resolution(Bits): 12; Sample Rate (max)(SPS): 125k; SFDR(dB): 78; SINAD(dB): 71; SNR(dB): 72; SubFamily: Precision ADC (<=10MSPS); DatasheetVersion: SBAS010; PackageVersion: 4202496/A, 03/2001; PackageReference: NTD28; PackageDescription: 28-Pin Plastic Dual-In-Line, Body 37.4 x 13.525 mm, Pitch 2.54 mm; Supplier 1: Digi-Key; Supplier Part Number 1: 296-14300-2-ND; Supplier 2: Digi-Key; Supplier Part Number 2: 296-14300-1-ND; Supplier 3: Digi-Key; Supplier Part Number 3: 296-14300-6-ND; Supplier 4: Mouser; Supplier Part Number 4: 595-ADS1100A3IDBVT; Digital Supply(Min)(V): 4.5; Eco-Plan: Green (RoHS & no Sb/Br); Mounting Technology: Through Hole; Code_JEDEC: MS-011-AB; ComponentLink1Description: Manufacturer URL; ComponentLink1URL: http://www.ti.com/; ComponentLink2Description: Datasheet; ComponentLink2URL: http://www.ti.com/general/docs/lit/getliterature.tsp?genericPartNumber=ADS774&fileType=pdf; ComponentLink3Description: Package Specification; ComponentLink3URL: http://www.ti.com/litv/pdf/mpdi056
footprint TI-NTD28 (DIP, 28-Leads, Body 37.4x13.525mm, Pitch 2.54mm)
pins: 1 VDD (power), 2 12/~{8} (in), 3 ~{CS} (in), 4 AO (in), 5 R/~{C} (in), 6 CE (in), 7 NC, 8 2.5V REFOUT (out), 9 ANALOG COMMON (power), 10 2.5V REFIN (in), 11 VEE (power), 12 BIPOLAR OFFSET (in), 13 10V RANGE (in), 14 20V RANGE (in), 15 DIGITAL COMMON (power), 16 DB0 (LSB) (hiz), 17 DB1 (hiz), 18 DB2 (hiz), 19 DB3 (hiz), 20 DB4 (hiz), 21 DB5 (hiz), 22 DB6 (hiz), 23 DB7 (hiz), 24 DB8 (hiz), 25 DB9 (hiz), 26 DB10 (hiz), 27 DB11 (MSB) (hiz), 28 STATUS (out)

## ADS774KU
designator U?
Microprocessor-Compatible Sampling CMOS ADC, -40 to 85 degC, 28-pin SOIC (DW28), Green (RoHS & no Sb/Br); Manufacturer: Texas Instruments; PartNumber: ADS774KU; # Input Channels: 1; Analog Voltage AV/DD(Max)(V): 5.5; Analog Voltage AV/DD(Min)(V): 4.5; Architecture: SAR; Digital Supply(Max)(V): 5.4; INL(Max)(+/-LSB): 0.5; Interface: Parallel CMOS; Resolution(Bits): 12; Sample Rate (max)(SPS): 125k; SFDR(dB): 78; SINAD(dB): 71; SNR(dB): 72; SubFamily: Precision ADC (<=10MSPS); DatasheetVersion: SBAS010; PackageVersion: 4040000-6/G, 01/2011; PackageReference: DW28; PackageDescription: 28-Pin Plastic Small Outline, Body 17.90 x 7.50 mm, Pitch 1.27 mm; Supplier 1: Digi-Key; Supplier Part Number 1: ADS1100A3IDBVTG4-ND; Supplier 2: Mouser; Supplier Part Number 2: 595-ADS1100A3IDBVTG4; Digital Supply(Min)(V): 4.5; Eco-Plan: Green (RoHS & no Sb/Br); Mounting Technology: Surface Mount; Code_JEDEC: MS-013; ComponentLink1Description: Manufacturer URL; ComponentLink1URL: http://www.ti.com/; ComponentLink2Description: Datasheet; ComponentLink2URL: http://www.ti.com/general/docs/lit/getliterature.tsp?genericPartNumber=ADS774&fileType=pdf; ComponentLink3Description: Package Specification; ComponentLink3URL: http://www.ti.com/lit/ml/mpds175a/mpds175a.pdf
footprint TI-DW28_N (SOIC, 28-Leads, Body 17.9x7.5mm, Pitch 1.27mm, IPC Medium Density)
footprint TI-DW28_L (SOIC, 28-Leads, Body 17.9x7.5mm, Pitch 1.27mm, IPC High Density)
footprint TI-DW28_M (SOIC, 28-Leads, Body 17.9x7.5mm, Pitch 1.27mm, IPC Low Density)
pins: 1 VDD (power), 2 12/~{8} (in), 3 ~{CS} (in), 4 AO (in), 5 R/~{C} (in), 6 CE (in), 7 NC, 8 2.5V REFOUT (out), 9 ANALOG COMMON (power), 10 2.5V REFIN (in), 11 VEE (power), 12 BIPOLAR OFFSET (in), 13 10V RANGE (in), 14 20V RANGE (in), 15 DIGITAL COMMON (power), 16 DB0 (LSB) (hiz), 17 DB1 (hiz), 18 DB2 (hiz), 19 DB3 (hiz), 20 DB4 (hiz), 21 DB5 (hiz), 22 DB6 (hiz), 23 DB7 (hiz), 24 DB8 (hiz), 25 DB9 (hiz), 26 DB10 (hiz), 27 DB11 (MSB) (hiz), 28 STATUS (out)

## ADS774KU/1K
designator U?
Microprocessor-Compatible Sampling CMOS ADC, -40 to 85 degC, 28-pin SOIC (DW28), Green (RoHS & no Sb/Br); Manufacturer: Texas Instruments; PartNumber: ADS774KU/1K; # Input Channels: 1; Analog Voltage AV/DD(Max)(V): 5.5; Analog Voltage AV/DD(Min)(V): 4.5; Architecture: SAR; Digital Supply(Max)(V): 5.4; INL(Max)(+/-LSB): 0.5; Interface: Parallel CMOS; Resolution(Bits): 12; Sample Rate (max)(SPS): 125k; SFDR(dB): 78; SINAD(dB): 71; SNR(dB): 72; SubFamily: Precision ADC (<=10MSPS); DatasheetVersion: SBAS010; PackageVersion: 4040000-6/G, 01/2011; PackageReference: DW28; PackageDescription: 28-Pin Plastic Small Outline, Body 17.90 x 7.50 mm, Pitch 1.27 mm; Supplier 1: Digi-Key; Supplier Part Number 1: ADS1100A4IDBVR-ND; Supplier 2: Mouser; Supplier Part Number 2: 595-ADS1100A4IDBVR; Digital Supply(Min)(V): 4.5; Eco-Plan: Green (RoHS & no Sb/Br); Mounting Technology: Surface Mount; Code_JEDEC: MS-013; ComponentLink1Description: Manufacturer URL; ComponentLink1URL: http://www.ti.com/; ComponentLink2Description: Datasheet; ComponentLink2URL: http://www.ti.com/general/docs/lit/getliterature.tsp?genericPartNumber=ADS774&fileType=pdf; ComponentLink3Description: Package Specification; ComponentLink3URL: http://www.ti.com/lit/ml/mpds175a/mpds175a.pdf
footprint TI-DW28_N (SOIC, 28-Leads, Body 17.9x7.5mm, Pitch 1.27mm, IPC Medium Density)
footprint TI-DW28_L (SOIC, 28-Leads, Body 17.9x7.5mm, Pitch 1.27mm, IPC High Density)
footprint TI-DW28_M (SOIC, 28-Leads, Body 17.9x7.5mm, Pitch 1.27mm, IPC Low Density)
pins: 1 VDD (power), 2 12/~{8} (in), 3 ~{CS} (in), 4 AO (in), 5 R/~{C} (in), 6 CE (in), 7 NC, 8 2.5V REFOUT (out), 9 ANALOG COMMON (power), 10 2.5V REFIN (in), 11 VEE (power), 12 BIPOLAR OFFSET (in), 13 10V RANGE (in), 14 20V RANGE (in), 15 DIGITAL COMMON (power), 16 DB0 (LSB) (hiz), 17 DB1 (hiz), 18 DB2 (hiz), 19 DB3 (hiz), 20 DB4 (hiz), 21 DB5 (hiz), 22 DB6 (hiz), 23 DB7 (hiz), 24 DB8 (hiz), 25 DB9 (hiz), 26 DB10 (hiz), 27 DB11 (MSB) (hiz), 28 STATUS (out)

## ADS774KU/1KE4
designator U?
Microprocessor-Compatible Sampling CMOS ADC, -40 to 85 degC, 28-pin SOIC (DW28), Green (RoHS & no Sb/Br); Manufacturer: Texas Instruments; PartNumber: ADS774KU/1KE4; # Input Channels: 1; Analog Voltage AV/DD(Max)(V): 5.5; Analog Voltage AV/DD(Min)(V): 4.5; Architecture: SAR; Digital Supply(Max)(V): 5.4; INL(Max)(+/-LSB): 0.5; Interface: Parallel CMOS; Resolution(Bits): 12; Sample Rate (max)(SPS): 125k; SFDR(dB): 78; SINAD(dB): 71; SNR(dB): 72; SubFamily: Precision ADC (<=10MSPS); DatasheetVersion: SBAS010; PackageVersion: 4040000-6/G, 01/2011; PackageReference: DW28; PackageDescription: 28-Pin Plastic Small Outline, Body 17.90 x 7.50 mm, Pitch 1.27 mm; Supplier 1: Digi-Key; Supplier Part Number 1: ADS1100A4IDBVRG4-ND; Supplier 2: Mouser; Supplier Part Number 2: 595-ADS1100A4IDBVRG4; Digital Supply(Min)(V): 4.5; Eco-Plan: Green (RoHS & no Sb/Br); Mounting Technology: Surface Mount; Code_JEDEC: MS-013; ComponentLink1Description: Manufacturer URL; ComponentLink1URL: http://www.ti.com/; ComponentLink2Description: Datasheet; ComponentLink2URL: http://www.ti.com/general/docs/lit/getliterature.tsp?genericPartNumber=ADS774&fileType=pdf; ComponentLink3Description: Package Specification; ComponentLink3URL: http://www.ti.com/lit/ml/mpds175a/mpds175a.pdf
footprint TI-DW28_N (SOIC, 28-Leads, Body 17.9x7.5mm, Pitch 1.27mm, IPC Medium Density)
footprint TI-DW28_L (SOIC, 28-Leads, Body 17.9x7.5mm, Pitch 1.27mm, IPC High Density)
footprint TI-DW28_M (SOIC, 28-Leads, Body 17.9x7.5mm, Pitch 1.27mm, IPC Low Density)
pins: 1 VDD (power), 2 12/~{8} (in), 3 ~{CS} (in), 4 AO (in), 5 R/~{C} (in), 6 CE (in), 7 NC, 8 2.5V REFOUT (out), 9 ANALOG COMMON (power), 10 2.5V REFIN (in), 11 VEE (power), 12 BIPOLAR OFFSET (in), 13 10V RANGE (in), 14 20V RANGE (in), 15 DIGITAL COMMON (power), 16 DB0 (LSB) (hiz), 17 DB1 (hiz), 18 DB2 (hiz), 19 DB3 (hiz), 20 DB4 (hiz), 21 DB5 (hiz), 22 DB6 (hiz), 23 DB7 (hiz), 24 DB8 (hiz), 25 DB9 (hiz), 26 DB10 (hiz), 27 DB11 (MSB) (hiz), 28 STATUS (out)

## ADS774KUE4
designator U?
Microprocessor-Compatible Sampling CMOS ADC, -40 to 85 degC, 28-pin SOIC (DW28), Green (RoHS & no Sb/Br); Manufacturer: Texas Instruments; PartNumber: ADS774KUE4; # Input Channels: 1; Analog Voltage AV/DD(Max)(V): 5.5; Analog Voltage AV/DD(Min)(V): 4.5; Architecture: SAR; Digital Supply(Max)(V): 5.4; INL(Max)(+/-LSB): 0.5; Interface: Parallel CMOS; Resolution(Bits): 12; Sample Rate (max)(SPS): 125k; SFDR(dB): 78; SINAD(dB): 71; SNR(dB): 72; SubFamily: Precision ADC (<=10MSPS); DatasheetVersion: SBAS010; PackageVersion: 4040000-6/G, 01/2011; PackageReference: DW28; PackageDescription: 28-Pin Plastic Small Outline, Body 17.90 x 7.50 mm, Pitch 1.27 mm; Supplier 1: Digi-Key; Supplier Part Number 1: 296-14301-2-ND; Supplier 2: Digi-Key; Supplier Part Number 2: 296-14301-1-ND; Supplier 3: Digi-Key; Supplier Part Number 3: 296-14301-6-ND; Supplier 4: Mouser; Supplier Part Number 4: 595-ADS1100A4IDBVT; Digital Supply(Min)(V): 4.5; Eco-Plan: Green (RoHS & no Sb/Br); Mounting Technology: Surface Mount; Code_JEDEC: MS-013; ComponentLink1Description: Manufacturer URL; ComponentLink1URL: http://www.ti.com/; ComponentLink2Description: Datasheet; ComponentLink2URL: http://www.ti.com/general/docs/lit/getliterature.tsp?genericPartNumber=ADS774&fileType=pdf; ComponentLink3Description: Package Specification; ComponentLink3URL: http://www.ti.com/lit/ml/mpds175a/mpds175a.pdf
footprint TI-DW28_N (SOIC, 28-Leads, Body 17.9x7.5mm, Pitch 1.27mm, IPC Medium Density)
footprint TI-DW28_L (SOIC, 28-Leads, Body 17.9x7.5mm, Pitch 1.27mm, IPC High Density)
footprint TI-DW28_M (SOIC, 28-Leads, Body 17.9x7.5mm, Pitch 1.27mm, IPC Low Density)
pins: 1 VDD (power), 2 12/~{8} (in), 3 ~{CS} (in), 4 AO (in), 5 R/~{C} (in), 6 CE (in), 7 NC, 8 2.5V REFOUT (out), 9 ANALOG COMMON (power), 10 2.5V REFIN (in), 11 VEE (power), 12 BIPOLAR OFFSET (in), 13 10V RANGE (in), 14 20V RANGE (in), 15 DIGITAL COMMON (power), 16 DB0 (LSB) (hiz), 17 DB1 (hiz), 18 DB2 (hiz), 19 DB3 (hiz), 20 DB4 (hiz), 21 DB5 (hiz), 22 DB6 (hiz), 23 DB7 (hiz), 24 DB8 (hiz), 25 DB9 (hiz), 26 DB10 (hiz), 27 DB11 (MSB) (hiz), 28 STATUS (out)

## ADS800U
designator U?
12-Bit, 40 MSPS ADC Single-Ended / Differential Input, Internal Reference, -40 to 85 degC, 28-pin SOIC (DW28), Green (RoHS & no Sb/Br); Manufacturer: Texas Instruments; PartNumber: ADS800U; # Input Channels: 1; Analog Voltage AV/DD(Max)(V): 5.25; Analog Voltage AV/DD(Min)(V): 4.75; Architecture: Pipeline; ENOB(Bits): 10; Interface: Parallel CMOS; Resolution(Bits): 12; Sample Rate (max)(SPS): 40M; SFDR(dB): 72; SINAD(dB): 63; SNR(dB): 64; SubFamily: High Speed ADC (>10MSPS); DatasheetVersion: SBAS035B; PackageVersion: 4040000-6/G, 01/2011; PackageReference: DW28; PackageDescription: 28-Pin Plastic Small Outline, Body 17.90 x 7.50 mm, Pitch 1.27 mm; Supplier 1: Digi-Key; Supplier Part Number 1: ADS1100A4IDBVTG4-ND; Supplier 2: Mouser; Supplier Part Number 2: 595-ADS1100A4IDBVTG4; Digital Supply(Max)(V): 5.25; Digital Supply(Min)(V): 4.75; Eco-Plan: Green (RoHS & no Sb/Br); Mounting Technology: Surface Mount; Code_JEDEC: MS-013; ComponentLink1Description: Manufacturer URL; ComponentLink1URL: http://www.ti.com/; ComponentLink2Description: Datasheet; ComponentLink2URL: http://www.ti.com/general/docs/lit/getliterature.tsp?genericPartNumber=ADS800&fileType=pdf; ComponentLink3Description: Package Specification; ComponentLink3URL: http://www.ti.com/lit/ml/mpds175a/mpds175a.pdf
footprint TI-DW28_N (SOIC, 28-Leads, Body 17.9x7.5mm, Pitch 1.27mm, IPC Medium Density)
footprint TI-DW28_L (SOIC, 28-Leads, Body 17.9x7.5mm, Pitch 1.27mm, IPC High Density)
footprint TI-DW28_M (SOIC, 28-Leads, Body 17.9x7.5mm, Pitch 1.27mm, IPC Low Density)
pins: 1 GND (power) "Ground", 2 B1 (hiz) "Bit 1, Most Significant Bit", 3 B2 (hiz) "Bit 2", 4 B3 (hiz) "Bit 3", 5 B4 (hiz) "Bit 4", 6 B5 (hiz) "Bit 5", 7 B6 (hiz) "Bit 6", 8 B7 (hiz) "Bit 7", 9 B8 (hiz) "Bit 8", 10 B9 (hiz) "Bit 9", 11 B10 (hiz) "Bit 10", 12 B11 (hiz) "Bit 11", 13 B12 (hiz) "Bit 12, Least Significant Bit", 14 GND (power) "Ground", 15 VS+ (power) "+5V Power Supply", 16 CLK (in) "Convert Clock Input, 50% Duty Cycle", 17 VS+ (power) "+5V Power Supply", 18 ~{OE} (in) "HI: High Impedance State. LO or Floating: Normal Operation. Internal pull-down resistors.", 19 MSBI (out) "Most Significant Bit Inversion, HI: MSB inverted for complementary output. LO or Floating: Straight output. Internal pull-down resistors", 20 VS+ (power) "+5V Power Supply", 21 REFB (in) "Bottom Reference Bypass. For external bypassing of internal +1.25V reference", 22 CM (out) "Common-Mode Voltage. It is derived by (REFT + REFB)/2.", 23 REFT (in) "Top Reference Bypass. For external bypassing of internal +3.25V reference", 24 VS+ (power) "+5V Power Supply", 25 GND (power) "Ground", 26 IN (in) "Input", 27 ~{IN} (in) "Complementary Input", 28 GND (power) "Ground"

## ADS800U/1K
designator U?
12-Bit, 40 MSPS ADC Single-Ended / Differential Input, Internal Reference, -40 to 85 degC, 28-pin SOIC (DW28), Green (RoHS & no Sb/Br); Manufacturer: Texas Instruments; PartNumber: ADS800U/1K; # Input Channels: 1; Analog Voltage AV/DD(Max)(V): 5.25; Analog Voltage AV/DD(Min)(V): 4.75; Architecture: Pipeline; ENOB(Bits): 10; Interface: Parallel CMOS; Resolution(Bits): 12; Sample Rate (max)(SPS): 40M; SFDR(dB): 72; SINAD(dB): 63; SNR(dB): 64; SubFamily: High Speed ADC (>10MSPS); DatasheetVersion: SBAS035B; PackageVersion: 4040000-6/G, 01/2011; PackageReference: DW28; PackageDescription: 28-Pin Plastic Small Outline, Body 17.90 x 7.50 mm, Pitch 1.27 mm; Supplier 1: Digi-Key; Supplier Part Number 1: 296-14302-2-ND; Supplier 2: Digi-Key; Supplier Part Number 2: 296-14302-1-ND; Supplier 3: Digi-Key; Supplier Part Number 3: 296-14302-6-ND; Supplier 4: Farnell; Supplier Part Number 4: 8408840; Supplier 5: Newark; Supplier Part Number 5: 20H0718; Supplier 6: Mouser; Supplier Part Number 6: 595-ADS1100A5IDBVT; Digital Supply(Max)(V): 5.25; Digital Supply(Min)(V): 4.75; Eco-Plan: Green (RoHS & no Sb/Br); Mounting Technology: Surface Mount; Code_JEDEC: MS-013; ComponentLink1Description: Manufacturer URL; ComponentLink1URL: http://www.ti.com/; ComponentLink2Description: Datasheet; ComponentLink2URL: http://www.ti.com/general/docs/lit/getliterature.tsp?genericPartNumber=ADS800&fileType=pdf; ComponentLink3Description: Package Specification; ComponentLink3URL: http://www.ti.com/lit/ml/mpds175a/mpds175a.pdf
footprint TI-DW28_N (SOIC, 28-Leads, Body 17.9x7.5mm, Pitch 1.27mm, IPC Medium Density)
footprint TI-DW28_L (SOIC, 28-Leads, Body 17.9x7.5mm, Pitch 1.27mm, IPC High Density)
footprint TI-DW28_M (SOIC, 28-Leads, Body 17.9x7.5mm, Pitch 1.27mm, IPC Low Density)
pins: 1 GND (power) "Ground", 2 B1 (hiz) "Bit 1, Most Significant Bit", 3 B2 (hiz) "Bit 2", 4 B3 (hiz) "Bit 3", 5 B4 (hiz) "Bit 4", 6 B5 (hiz) "Bit 5", 7 B6 (hiz) "Bit 6", 8 B7 (hiz) "Bit 7", 9 B8 (hiz) "Bit 8", 10 B9 (hiz) "Bit 9", 11 B10 (hiz) "Bit 10", 12 B11 (hiz) "Bit 11", 13 B12 (hiz) "Bit 12, Least Significant Bit", 14 GND (power) "Ground", 15 VS+ (power) "+5V Power Supply", 16 CLK (in) "Convert Clock Input, 50% Duty Cycle", 17 VS+ (power) "+5V Power Supply", 18 ~{OE} (in) "HI: High Impedance State. LO or Floating: Normal Operation. Internal pull-down resistors.", 19 MSBI (out) "Most Significant Bit Inversion, HI: MSB inverted for complementary output. LO or Floating: Straight output. Internal pull-down resistors", 20 VS+ (power) "+5V Power Supply", 21 REFB (in) "Bottom Reference Bypass. For external bypassing of internal +1.25V reference", 22 CM (out) "Common-Mode Voltage. It is derived by (REFT + REFB)/2.", 23 REFT (in) "Top Reference Bypass. For external bypassing of internal +3.25V reference", 24 VS+ (power) "+5V Power Supply", 25 GND (power) "Ground", 26 IN (in) "Input", 27 ~{IN} (in) "Complementary Input", 28 GND (power) "Ground"